# Altium schematic symbol library BC847BLT1G.SchLib: 1 symbol
Pins are listed as number, name and electrical type; pins without a type are passive.

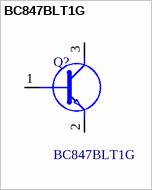
[diagram p0: symbol BC847BLT1G]

## BC847BLT1G
designator Q?
Transistor NPN 45V 100mA hfe200 SOT23 ON Semi BC847BLT1G NPN Bipolar Transistor, 0.1 A, 45 V, 3-Pin SOT-23; Manufacturer_Name: onsemi; Geometry.Height: 1.11mm; Mouser Part Number: 863-BC847BLT1G; Mouser Price/Stock: https://www.mouser.co.uk/ProductDetail/onsemi/BC847BLT1G?qs=vNc2DXHODiLAH81QlkcRzw%3D%3D; Manufacturer_Part_Number: BC847BLT1G; Datasheet Link: http://www.onsemi.com/pub/Collateral/BC846ALT1-D.PDF
footprint SOT96P237X111-3N
pins: 1 B, 2 E, 3 C